# EAGLE library part LT3470A_M (library linear_tech_opendcc)
LT3470A - Micropower Buck Regulator with Integrated Boost and Catch Diodes # Low Quiescent Current: 35?A at 12VIN to 3.3VOUT # Integrated Boost and Catch Diodes # Input Range: 4V to 40V # 3.3V at 250mA from 4V to 40V Input # 5V at 250mA from 5.7V to 40V Input # Low Output Ripple: <10mV # < 1?A in Shutdown Mode # Output Voltage: 1.25V to 16V # Hysteretic Mode Control ? Low Ripple Burst Mode® Operation at Light Loads ? Continuous Operation at Higher Loads # Solution Size as Small as 50mm2 # Low Pro?le (0.75mm) 2mm × 3mm Thermally Enhanced 8-Lead DFN Package Manual Solder optimiized package, 2 additional
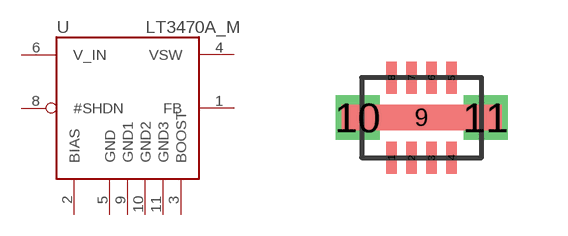
[diagram p14: symbol with the pads of DFN8-M; footprint DFN8-M]

Designator prefix -

## LT3470A_M  [DFN8-M]
1  FB  pas
2  BIAS
3  BOOST  pas
4  VSW  pas
5  GND  pwr
6  V_IN  pas
8  #SHDN  pas
9  GND1  pwr
10  GND2  pwr
11  GND3  pwr

## Footprint DFN8-M (pad centres in mm)
DFN8, longer pads, two side drills with 0,6 diameter, for manual solder
smd 0.26 x 0.8: 1 -0.75,-1; 2 -0.25,-1; 3 0.25,-1; 4 0.75,-1; 5 0.75,1; 6 0.25,1; 7 -0.25,1; 8 -0.75,1
smd 4 x 0.635: 9 0,0
drill 0.6 pad 1 square: 10 -1.6,0
drill 0.6 pad 1.016 square: 11 1.6,0